# EAGLE library part SM08B-SRSS-TB (library HokyoParts)
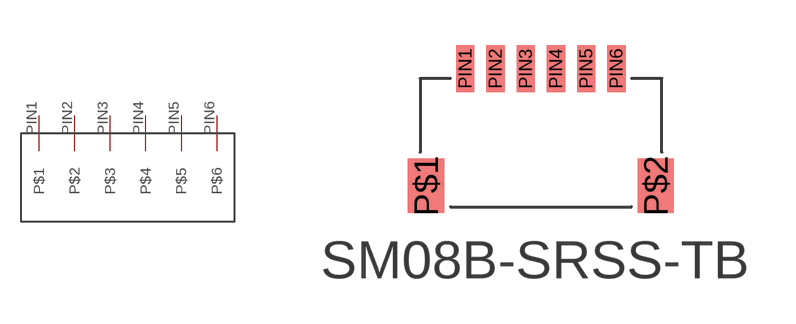
[diagram p2: symbol with the pads of SM08B-SRSS-TB; footprint SM08B-SRSS-TB]

Designator prefix -

## SM08B-SRSS-TB  [SM08B-SRSS-TB]
PIN1  P$1
PIN2  P$2
PIN3  P$3
PIN4  P$4
PIN5  P$5
PIN6  P$6

## Footprint SM08B-SRSS-TB (pad centres in mm)
smd 1.2 x 1.8: P$1 -7.01,-6.77; P$2 0.59,-6.77
smd 0.6 x 1.55: PIN1 -5.71,-2.89; PIN2 -4.71,-2.89; PIN3 -3.71,-2.89; PIN4 -2.71,-2.89; PIN5 -1.71,-2.89; PIN6 -0.71,-2.89